# Altium schematic symbol library IGBT.SchLib: 1 symbol
Pins are listed as number, name and electrical type; pins without a type are passive.

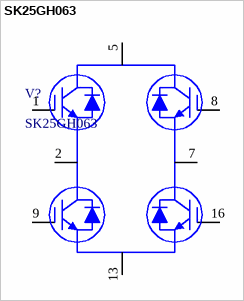
[diagram p0: symbol SK25GH063]

## SK25GH063
designator V?
600V/30A
footprint SK25GH063
pins: 1 G, 2 E/C, 5 C, 7 E/C, 8 G, 9 G, 13 E, 16 G